# EAGLE library part PIC32MZ2049ECG-064 (library PonLib)
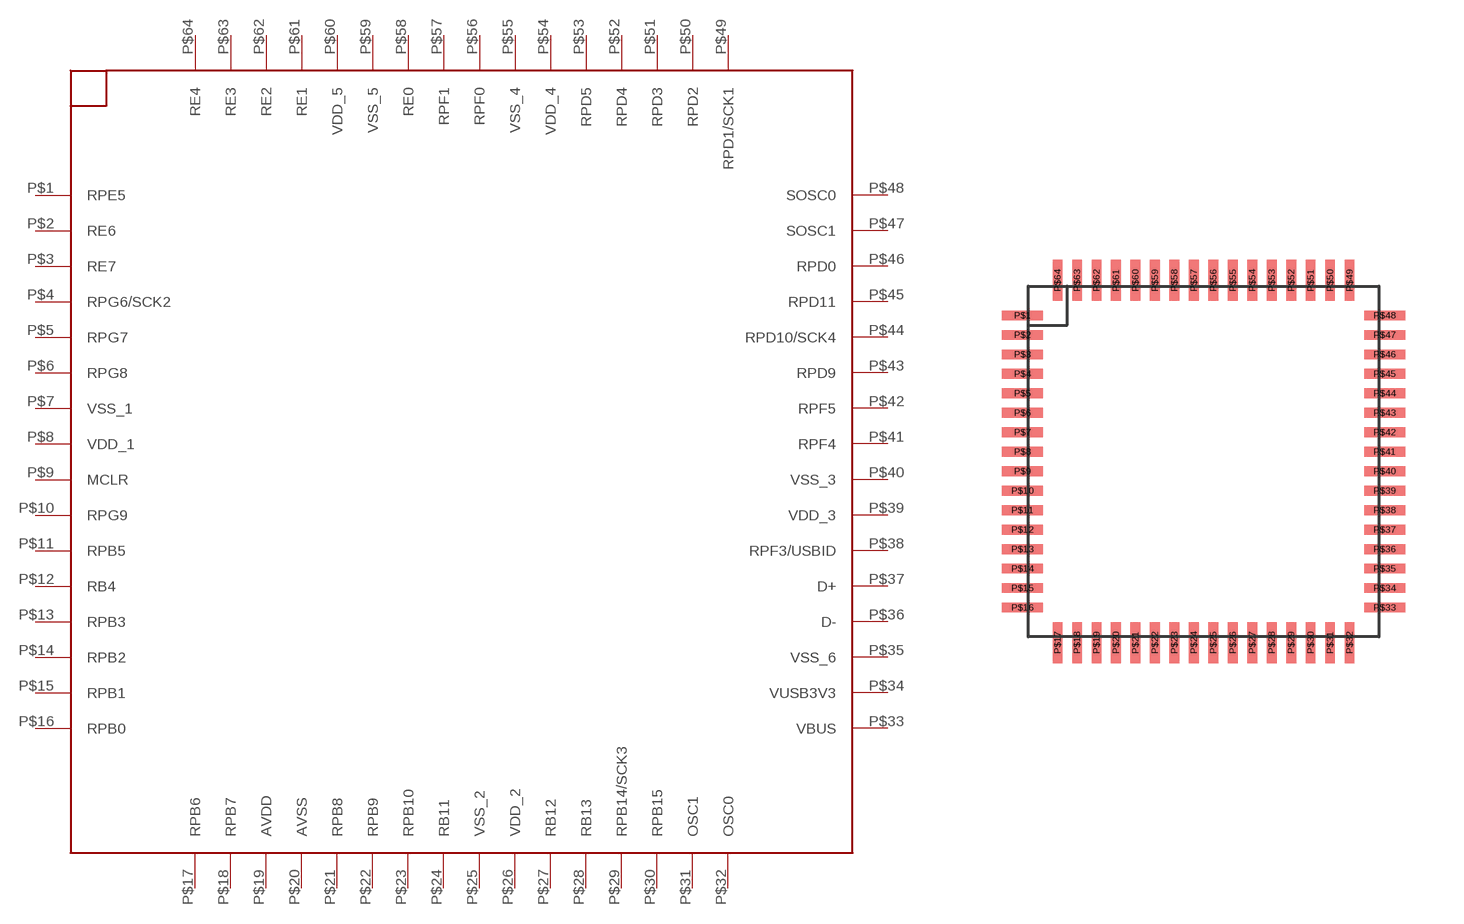
[diagram p26: symbol with the pads of QFN-64-0.5-MICROCHIP; footprint QFN-64-0.5-MICROCHIP]

Designator prefix -

## PIC32MZ2049ECG-064  [QFN-64-0.5-MICROCHIP]
P$1  RPE5
P$2  RE6
P$3  RE7
P$4  RPG6/SCK2
P$5  RPG7
P$6  RPG8
P$7  VSS_1
P$8  VDD_1
P$9  MCLR
P$10  RPG9
P$11  RPB5
P$12  RB4
P$13  RPB3
P$14  RPB2
P$15  RPB1
P$16  RPB0
P$17  RPB6
P$18  RPB7
P$19  AVDD
P$20  AVSS
P$21  RPB8
P$22  RPB9
P$23  RPB10
P$24  RB11
P$25  VSS_2
P$26  VDD_2
P$27  RB12
P$28  RB13
P$29  RPB14/SCK3
P$30  RPB15
P$31  OSC1
P$32  OSC0
P$33  VBUS
P$34  VUSB3V3
P$35  VSS_6
P$36  D-
P$37  D+
P$38  RPF3/USBID
P$39  VDD_3
P$40  VSS_3
P$41  RPF4
P$42  RPF5
P$43  RPD9
P$44  RPD10/SCK4
P$45  RPD11
P$46  RPD0
P$47  SOSC1
P$48  SOSC0
P$49  RPD1/SCK1
P$50  RPD2
P$51  RPD3
P$52  RPD4
P$53  RPD5
P$54  VDD_4
P$55  VSS_4
P$56  RPF0
P$57  RPF1
P$58  RE0
P$59  VSS_5
P$60  VDD_5
P$61  RE1
P$62  RE2
P$63  RE3
P$64  RE4

## Footprint QFN-64-0.5-MICROCHIP (pad centres in mm)
smd 1.05 x 0.25: P$1 -4.65,3.75; P$2 -4.65,3.25; P$3 -4.65,2.75; P$4 -4.65,2.25; P$5 -4.65,1.75; P$6 -4.65,1.25; P$7 -4.65,0.75; P$8 -4.65,0.25; P$9 -4.65,-0.25; P$10 -4.65,-0.75; P$11 -4.65,-1.25; P$12 -4.65,-1.75; P$13 -4.65,-2.25; P$14 -4.65,-2.75; P$15 -4.65,-3.25; P$16 -4.65,-3.75; P$33 4.65,-3.75; P$34 4.65,-3.25; P$35 4.65,-2.75; P$36 4.65,-2.25; P$37 4.65,-1.75; P$38 4.65,-1.25; P$39 4.65,-0.75; P$40 4.65,-0.25; P$41 4.65,0.25; P$42 4.65,0.75; P$43 4.65,1.25; P$44 4.65,1.75; P$45 4.65,2.25; P$46 4.65,2.75; P$47 4.65,3.25; P$48 4.65,3.75
smd 0.25 x 1.05: P$17 -3.75,-4.65; P$18 -3.25,-4.65; P$19 -2.75,-4.65; P$20 -2.25,-4.65; P$21 -1.75,-4.65; P$22 -1.25,-4.65; P$23 -0.75,-4.65; P$24 -0.25,-4.65; P$25 0.25,-4.65; P$26 0.75,-4.65; P$27 1.25,-4.65; P$28 1.75,-4.65; P$29 2.25,-4.65; P$30 2.75,-4.65; P$31 3.25,-4.65; P$32 3.75,-4.65; P$49 3.75,4.65; P$50 3.25,4.65; P$51 2.75,4.65; P$52 2.25,4.65; P$53 1.75,4.65; P$54 1.25,4.65; P$55 0.75,4.65; P$56 0.25,4.65; P$57 -0.25,4.65; P$58 -0.75,4.65; P$59 -1.25,4.65; P$60 -1.75,4.65; P$61 -2.25,4.65; P$62 -2.75,4.65; P$63 -3.25,4.65; P$64 -3.75,4.65